# EAGLE library part UCC27211DR (library UCC27211DR)
Check availability <https://pricing.snapeda.com/parts/UCC27211DR/Texas%20Instruments/view-part?ref=eda>
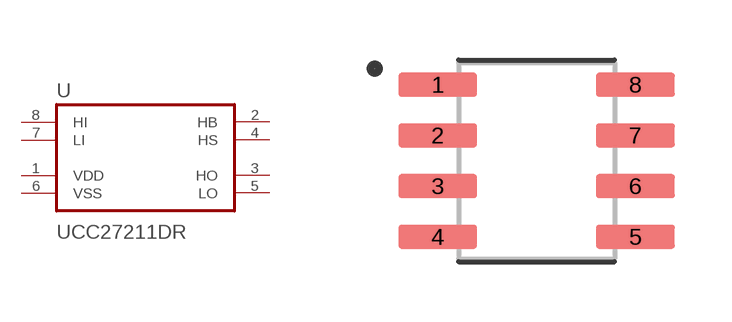
[diagram p0: symbol with the pads of SOIC127P599X175-8N; footprint SOIC127P599X175-8N]

Designator prefix U

## UCC27211DR (AVAILABILITY: In Stock; CHECK_PRICES: https://www.snapeda.com/parts/UCC27211DR/Texas+Instruments/view-part/?ref=eda; DESCRIPTION: 4-A, 120-V half bridge gate driver with 8-V UVLO and TTL inputs; JLCPCB: C2871979; MF: Texas Instruments; MP: UCC27211DR; PACKAGE: SOIC-8 Texas Instruments; PRICE: None; SNAPEDA_LINK: https://www.snapeda.com/parts/UCC27211DR/Texas+Instruments/view-part/?ref=snap)  [SOIC127P599X175-8N]
1  VDD  pwr
2  HB
3  HO
4  HS
5  LO
6  VSS  pwr
7  LI  in
8  HI  in

## Footprint SOIC127P599X175-8N (pad centres in mm)
smd 1.97 x 0.6: 1 -2.47,1.905; 2 -2.47,0.635; 3 -2.47,-0.635; 4 -2.47,-1.905; 5 2.47,-1.905; 6 2.47,-0.635; 7 2.47,0.635; 8 2.47,1.905